# Altium schematic symbol library SCH - MCU - ATTINY - MICROCHIP ATTINY48-MMU QFN28.SchLib: 1 symbol
Pins are listed as number, name and electrical type; pins without a type are passive.

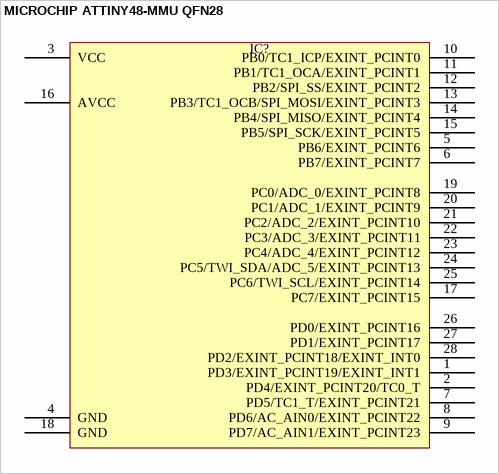
[diagram p0: symbol MICROCHIP ATTINY48-MMU QFN28]

## MICROCHIP ATTINY48-MMU QFN28
designator IC?  (value not drawn)
pins: 1 PD3/EXINT_PCINT19/EXINT_INT1, 2 PD4/EXINT_PCINT20/TC0_T, 3 VCC, 4 GND, 5 PB6/EXINT_PCINT6, 6 PB7/EXINT_PCINT7, 7 PD5/TC1_T/EXINT_PCINT21, 8 PD6/AC_AIN0/EXINT_PCINT22, 9 PD7/AC_AIN1/EXINT_PCINT23, 10 PB0/TC1_ICP/EXINT_PCINT0, 11 PB1/TC1_OCA/EXINT_PCINT1, 12 PB2/SPI_SS/EXINT_PCINT2, 13 PB3/TC1_OCB/SPI_MOSI/EXINT_PCINT3, 14 PB4/SPI_MISO/EXINT_PCINT4, 15 PB5/SPI_SCK/EXINT_PCINT5, 16 AVCC, 17 PC7/EXINT_PCINT15, 18 GND, 19 PC0/ADC_0/EXINT_PCINT8, 20 PC1/ADC_1/EXINT_PCINT9, 21 PC2/ADC_2/EXINT_PCINT10, 22 PC3/ADC_3/EXINT_PCINT11, 23 PC4/ADC_4/EXINT_PCINT12, 24 PC5/TWI_SDA/ADC_5/EXINT_PCINT13, 25 PC6/TWI_SCL/EXINT_PCINT14, 26 PD0/EXINT_PCINT16, 27 PD1/EXINT_PCINT17, 28 PD2/EXINT_PCINT18/EXINT_INT0